# Altium schematic symbol library TEST.SchLib: 1 symbol
Pins are listed as number, name and electrical type; pins without a type are passive.

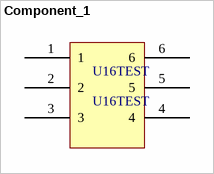
[diagram p0: symbol Component_1]

## Component_1
designator U16TEST, comment U16TEST
pins: 1, 2, 3, 4, 5, 6